# Altium footprint library Capacitor_SMD.PcbLib: 19 footprints (part 2 of 2)
Each footprint in its own frame and in the unit in brackets; x right, y up, seen from the top. Pads: shape width x height; smd on the part's side, far side on the other; paste and mask are expansions set on the pad; w line width, h text height; cw(c..) or ccw(c..) is an arc to the next point about the centre after c.
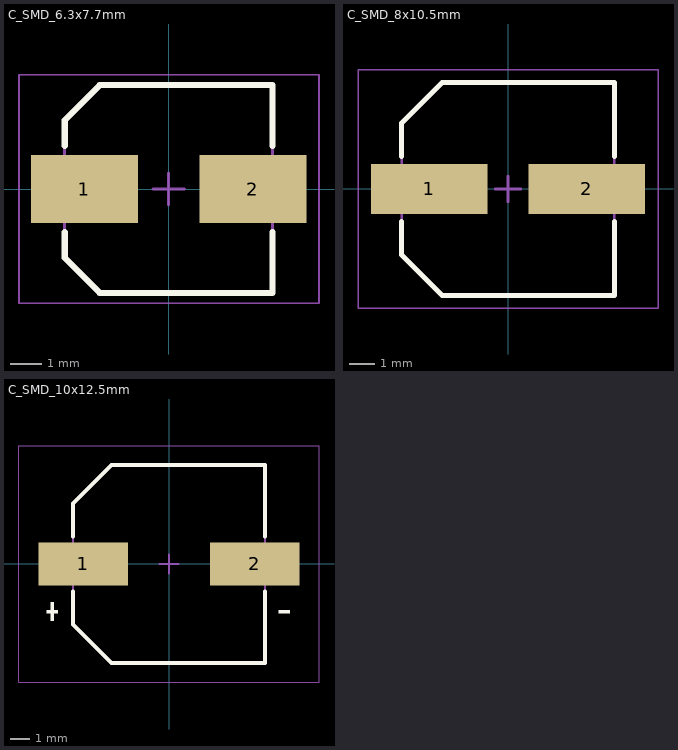
[diagram p1: the footprints below, top view; thin cyan lines are the x and y axes]

## C_SMD_6.3x7.7mm [mm] "Aluminum Electrolytic Capacitor, Body 6.60x6.60x7.70mm, IPC Low Density"
height 7.7
pads (2):
  rect 3.4x2.15 smd: 1(-2.675,0) 2(2.675,0)
Top Overlay:
  lines w0.2: -3.3,-1.375 -3.3,-2.188 -2.188,-3.3 3.3,-3.3 3.3,-1.375 ; -3.3,1.375 -3.3,2.187 -2.188,3.3 3.3,3.3 3.3,1.375
Mechanical 13:
  lines w0.1: -3.3,-2.188 -3.3,2.187 -2.188,3.3 3.3,3.3 3.3,-3.3 -2.188,-3.3 -3.3,-2.188
Mechanical 15:
  lines w0.05: -4.75,-3.625 4.775,-3.625 4.775,3.625 -4.75,3.625 -4.75,-3.625
  lines w0.1: -0.5,0 0.5,0 ; 0,-0.5 0,0.5
3D body "CAPAE7266X77M.step": height 7.7, standoff 0, extent -3.6,-3.3 3.6,3.3

## C_SMD_8x10.5mm [mm] "Aluminum Electrolytic Capacitor, Body 8.30x8.30x10.50mm, IPC Medium Density"
height 10.5
pads (2):
  rect 4.55x1.95 smd: 1(-3.075,0) 2(3.075,0)
Top Overlay:
  lines w0.2: -4.15,-1.275 -4.15,-2.563 -2.562,-4.15 4.15,-4.15 4.15,-1.275 ; -4.15,1.275 -4.15,2.562 -2.562,4.15 4.15,4.15 4.15,1.275
Mechanical 13:
  lines w0.1: -4.15,-2.563 -4.15,2.562 -2.562,4.15 4.15,4.15 4.15,-4.15 -2.562,-4.15 -4.15,-2.563
Mechanical 15:
  lines w0.05: -5.85,-4.65 5.85,-4.65 5.85,4.65 -5.85,4.65 -5.85,-4.65
  lines w0.1: -0.5,0 0.5,0 ; 0,-0.5 0,0.5
3D body "CAPAE8883X105N.step": height 10.5, standoff 0, extent -4.4,-4.15 4.4,4.15

## C_SMD_10x12.5mm [mm] "Aluminum Electrolytic Capacitor, Body 10.00x10.30x12.50mm, IPC Low Density"
height 12.5
pads (2):
  rect 4.65x2.25 smd: 1(-4.45,0) 2(4.45,0)
Top Overlay:
  region: 6.288,-2.408 6.288,-2.552 5.712,-2.552 5.712,-2.408
  region: -6.36,-2.408 -6.36,-2.552 -5.784,-2.552 -5.784,-2.408
  region: -6.144,-2 -6.144,-2.96 -6,-2.96 -6,-2
  lines w0.2: -5,-1.425 -5,-3.138 -2.988,-5.15 5,-5.15 5,-1.425 ; -5,1.425 -5,3.137 -2.988,5.15 5,5.15 5,1.425
Mechanical 13:
  lines w0.1: -5,-3.138 -5,3.137 -2.988,5.15 5,5.15 5,-5.15 -2.988,-5.15 -5,-3.138
Mechanical 15:
  lines w0.05: -7.8,-6.15 7.8,-6.15 7.8,6.15 -7.8,6.15 -7.8,-6.15
  lines w0.1: -0.5,0 0.5,0 ; 0,-0.5 0,0.5
3D body "CAPAE114103X125M.step": height 12.5, standoff 0, extent -5.7,-5.15 5.7,5.15